# Altium footprint library SS5-10-3.00-X-D-K-XX.PcbLib: 1 footprints
Each footprint in its own frame and in the unit in brackets; x right, y up, seen from the top. Pads: shape width x height; smd on the part's side, far side on the other; paste and mask are expansions set on the pad; w line width, h text height; cw(c..) or ccw(c..) is an arc to the next point about the centre after c.
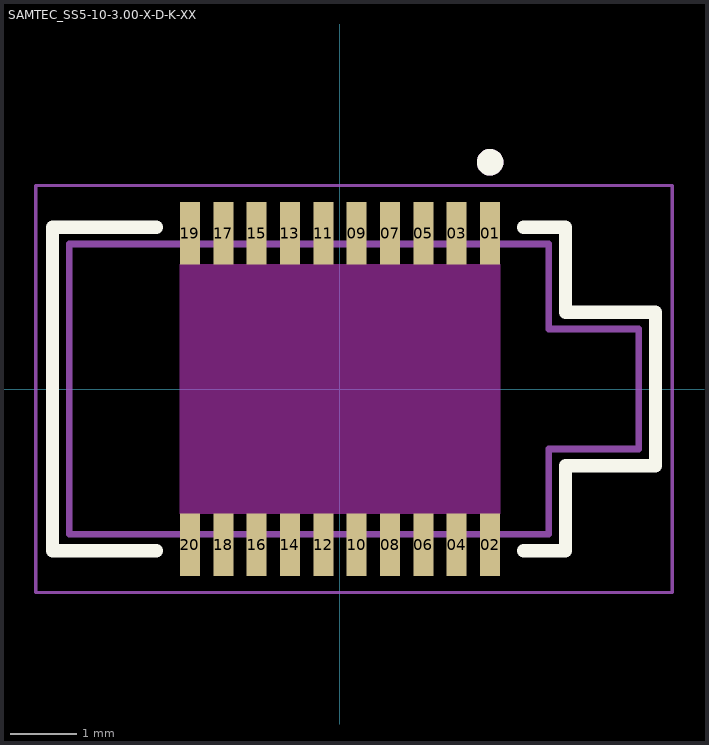
[diagram p0: the footprint, top view; thin cyan lines are the x and y axes]

## SAMTEC_SS5-10-3.00-X-D-K-XX [mm]
pads (20):
  rect 0.3x0.93 smd: 01(2.25,2.335) 02(2.25,-2.335) 03(1.75,2.335) 04(1.75,-2.335) 05(1.25,2.335) 06(1.25,-2.335) 07(0.75,2.335) 08(0.75,-2.335) 09(0.25,2.335) 10(0.25,-2.335) 11(-0.25,2.335) 12(-0.25,-2.335) 13(-0.75,2.335) 14(-0.75,-2.335) 15(-1.25,2.335) 16(-1.25,-2.335) 17(-1.75,2.335) 18(-1.75,-2.335) 19(-2.25,2.335) 20(-2.25,-2.335)
Top Layer keep-out:
  region: 2.4,-1.87 -2.4,-1.87 -2.4,1.87 2.4,1.87
  region: 2.4,-1.87 -2.4,-1.87 -2.4,1.87 2.4,1.87
Top Overlay:
  circle w0.2: c2.25,3.4 r0.1
  lines w0.2: -2.75,-2.425 -4.31,-2.425 -4.31,2.425 -2.75,2.425 ; 2.75,-2.425 3.38,-2.425 3.38,-1.15 4.73,-1.15 4.73,1.15 3.38,1.15 3.38,2.425 2.75,2.425
Mechanical 13:
  circle w0.2: c2.25,3.4 r0.1
  lines w0.1: -4.06,-2.175 -4.06,2.175 3.13,2.175 3.13,0.9 4.48,0.9 4.48,-0.9 3.13,-0.9 3.13,-2.175 -4.06,-2.175
Mechanical 15:
  lines w0.05: -4.56,-3.05 -4.56,3.05 4.98,3.05 4.98,-3.05 -4.56,-3.05
3D body "SS5-10-3.00-L-D-K-TR.stp": height 3.37, standoff -0.13, extent -4.06,-2.5 4.48,2.5